# EAGLE library part LTZ1000 (library ic)
LTZ1000: Precision reference (Linear Technology) 7.2V, 2µV noise
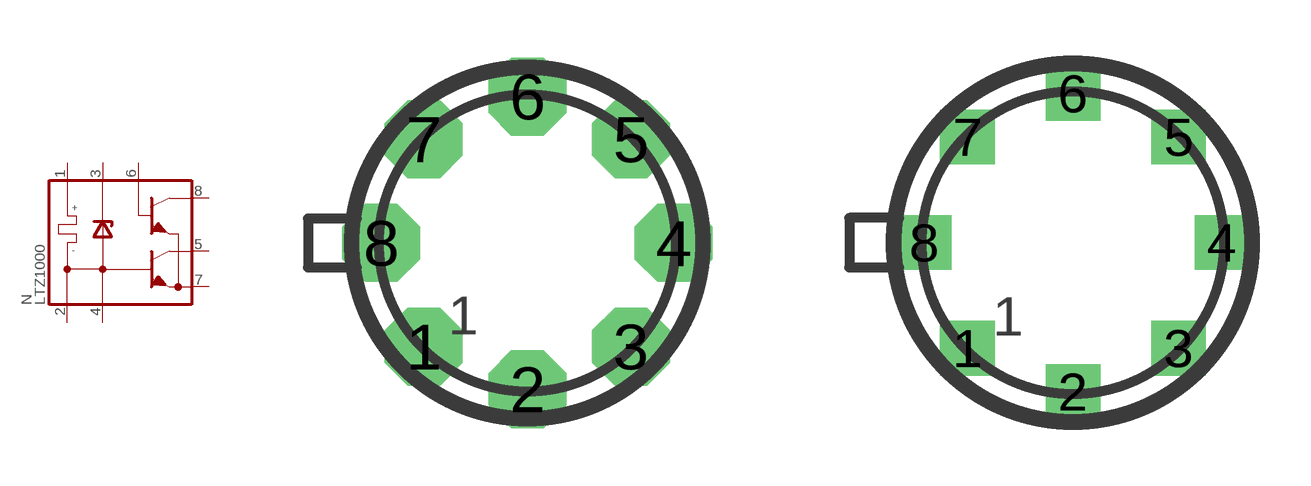
[diagram p85: symbol with the pads of TO99_8N; footprints TO99_8N, TO99_8S]

Designator prefix N

## LTZ1000  [TO99_8N]
1  H+
2  H-
3  DC
4  DA
5  C1
6  B
7  E
8  C2

## LTZ1000S  [TO99_8S]
Pads as for TO99_8N

## LTZ1000N  [TO99_8N]
Pads as for TO99_8N

## LTZ1000L  [TO99_8L]
Pads as for TO99_8N

## Footprint TO99_8N (pad centres in mm)
drill 0.813 pad 2.032 octagon: 1 -2.699,-2.699; 2 0,-3.81; 3 2.699,-2.699; 4 3.81,0; 5 2.699,2.699; 6 0,3.81; 7 -2.699,2.699; 8 -3.81,0

## Footprint TO99_8S (pad centres in mm)
drill 0.813 pad 1.397 square: 1 -2.699,-2.699; 2 0,-3.81; 3 2.699,-2.699; 4 3.81,0; 5 2.699,2.699; 6 0,3.81; 7 -2.699,2.699; 8 -3.81,0

## Footprint TO99_8L (pad centres in mm)
drill 0.813 pad 1.397 long: 1 -3.81,-3.81; 2 -1.27,-3.81; 3 1.27,-3.81; 4 3.81,-3.81; 5 3.81,3.81; 6 1.27,3.81; 7 -1.27,3.81; 8 -3.81,3.81